# Altium footprint library i10033526.PcbLib: 1 footprints
Each footprint in its own frame and in the unit in brackets; x right, y up, seen from the top. Pads: shape width x height; smd on the part's side, far side on the other; paste and mask are expansions set on the pad; w line width, h text height; cw(c..) or ccw(c..) is an arc to the next point about the centre after c.
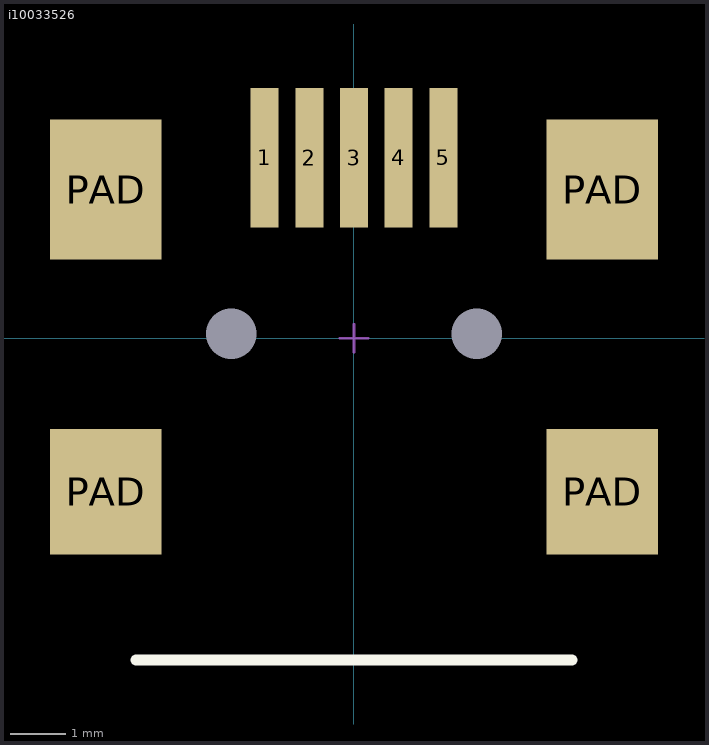
[diagram p0: the footprint, top view; thin cyan lines are the x and y axes]

## i10033526 [mm] "Amphenol 10033526 Series USB Mini-B connector"
pads (11):
  round 0 hole 0.905: 0(-2.2,0.085) 0(2.2,0.085)
  rect 0.5x2.5 smd: 1(-1.6,3.235) 2(-0.8,3.235) 3(0,3.235) 4(0.8,3.235) 5(1.6,3.235)
  rect 2x2.25 smd: PAD(-4.45,-2.75) PAD(4.45,-2.75)
  rect 2x2.5 smd: PAD(-4.45,2.665) PAD(4.45,2.665)
Top Overlay:
  lines w0.2: -3.9,-5.765 0,-5.765 3.9,-5.765
Mechanical 15:
  lines w0.05: -0.25,0 0.25,0 ; 0,-0.25 0,0.25
3D body "Amphenol_i10033526.STEP": height 4.03, standoff -0.97, extent -4.95,-5.765 4.95,3.635